# Altium footprint library TLHG5420ASZ.PcbLib: 1 footprints
Each footprint in its own frame and in the unit in brackets; x right, y up, seen from the top. Pads: shape width x height; smd on the part's side, far side on the other; paste and mask are expansions set on the pad; w line width, h text height; cw(c..) or ccw(c..) is an arc to the next point about the centre after c.
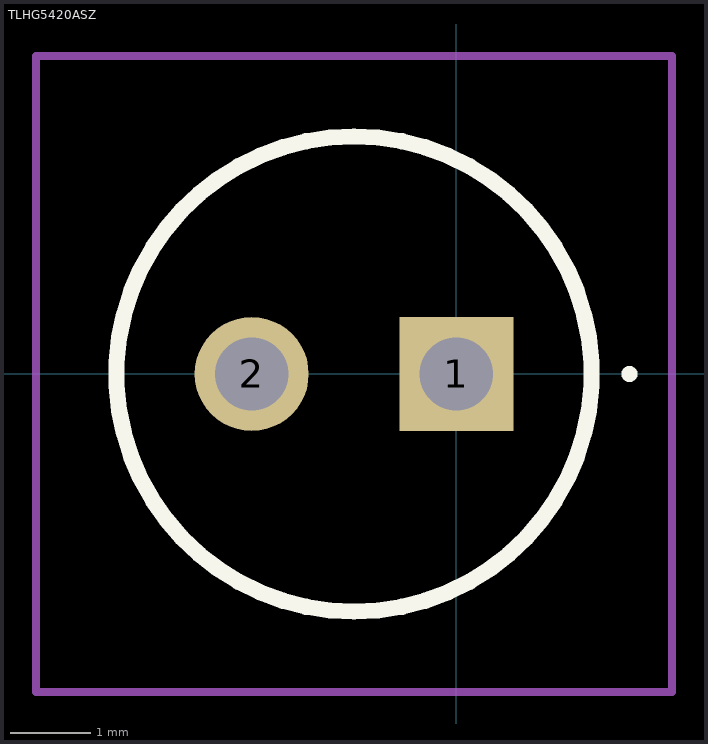
[diagram p0: the footprint, top view; thin cyan lines are the x and y axes]

## TLHG5420ASZ [mm]
pads (2):
  rect 1.416x1.416 hole 0.91: 1(0,0)
  round 1.416 hole 0.91: 2(-2.54,0)
Top Overlay:
  lines w0.1: 2.1,0 cw(c2.15,0) 2.2,0 ; 2.1,0 2.1,0 ; 2.1,0 ccw(c2.15,0) 2.2,0 ; 2.2,0 2.2,0
  lines w0.2: -1.27,-2.95 cw(c-1.27,0) -1.27,2.95 ; -1.27,-2.95 -1.27,-2.95 ; -1.27,-2.95 ccw(c-1.27,0) -1.27,2.95 ; -1.27,2.95 -1.27,2.95
Mechanical 15:
  lines w0.1: -1.27,-2.95 cw(c-1.27,0) -1.27,2.95 ; -1.27,-2.95 -1.27,-2.95 ; -1.27,-2.95 ccw(c-1.27,0) -1.27,2.95 ; -1.27,2.95 -1.27,2.95
Mechanical 20:
  lines w0.1: -5.22,-3.95 2.68,-3.95 2.68,3.95 -5.22,3.95 -5.22,-3.95